# EAGLE library part CMV8000ES (library ICs)
8MP high speed global shutter image sensor
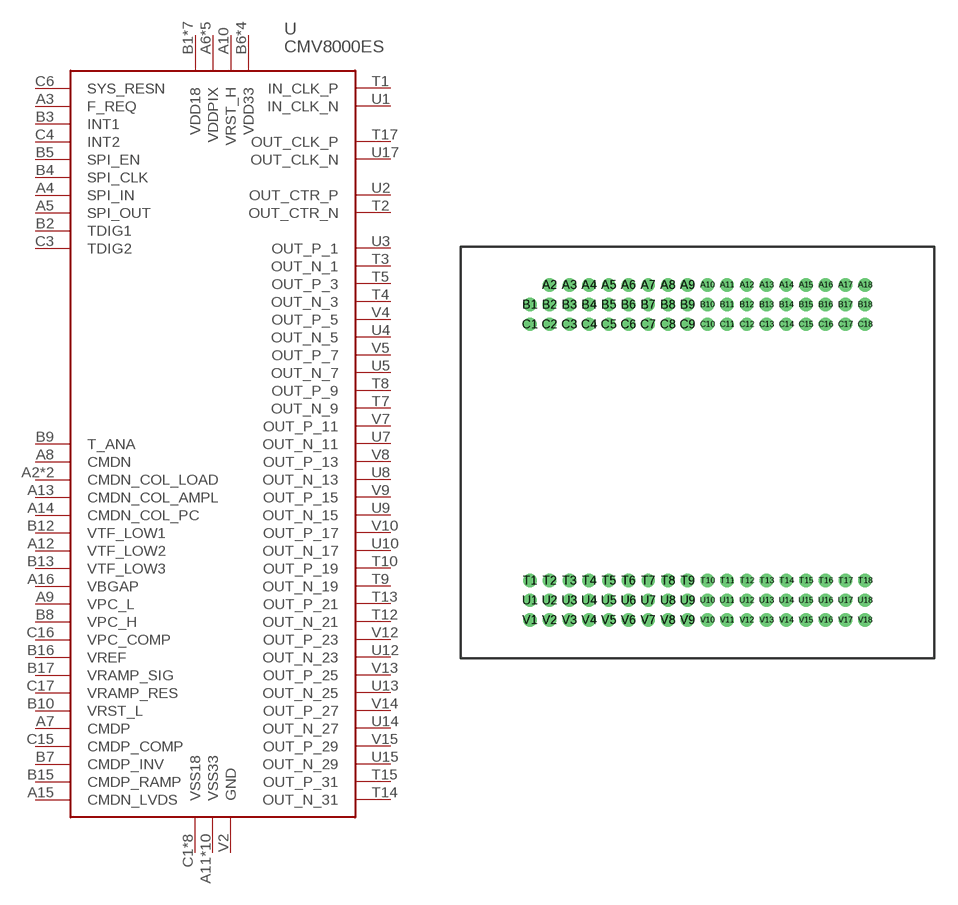
[diagram p202: symbol with the pads of CMV8000; footprint CMV8000]

Designator prefix U

## CMV8000ES-1E5M1PA (HEIGHT: 2.9; MOUSER: 469-CMV8000ES1E5M1PA; PRICE_PER: 484.05; VALUE: CMV8000 MONO)  [CMV8000]
A2  CMDN_COL_LOAD
A3  F_REQ
A4  SPI_IN
A5  SPI_OUT
A6  VDDPIX
A7  CMDP
A8  CMDN
A9  VPC_L
A10  VRST_H
A11  VSS33
A12  VTF_LOW2
A13  CMDN_COL_AMPL
A14  CMDN_COL_PC
A15  CMDN_LVDS
A16  VBGAP
A18  VSS33
B1  VDD18
B2  TDIG1
B3  INT1
B4  SPI_CLK
B5  SPI_EN
B6  VDD33
B7  CMDP_INV
B8  VPC_H
B9  T_ANA
B10  VRST_L
B11  VDDPIX
B12  VTF_LOW1
B13  VTF_LOW3
B14  CMDN_COL_LOAD
B15  CMDP_RAMP
B16  VREF
B17  VRAMP_SIG
B18  VSS33
C1  VSS18
C2  VSS33
C3  TDIG2
C4  INT2
C5  VSS33
C6  SYS_RESN
C7  VDDPIX
C8  VSS33
C9  VSS33
C10  VDDPIX
C11  VDD33
C12  VSS33
C13  VSS33
C14  VDDPIX
C15  CMDP_COMP
C16  VPC_COMP
C17  VRAMP_RES
C18  VDD33
T1  IN_CLK_P
T2  OUT_CTR_N
T3  OUT_N_1
T4  OUT_N_3
T5  OUT_P_3
T6  VSS18
T7  OUT_N_9
T8  OUT_P_9
T9  OUT_N_19
T10  OUT_P_19
T11  VSS18
T12  OUT_N_21
T13  OUT_P_21
T14  OUT_N_31
T15  OUT_P_31
T16  VSS18
T17  OUT_CLK_P
T18  VDD18
U1  IN_CLK_N
U2  OUT_CTR_P
U3  OUT_P_1
U4  OUT_N_5
U5  OUT_N_7
U6  VDD18
U7  OUT_N_11
U8  OUT_N_13
U9  OUT_N_15
U10  OUT_N_17
U11  VDD18
U12  OUT_N_23
U13  OUT_N_25
U14  OUT_N_27
U15  OUT_N_29
U16  VDD18
U17  OUT_CLK_N
U18  VSS18
V1  VDD18
V2  GND
V3  VSS18
V4  OUT_P_5
V5  OUT_P_7
V6  VSS33
V7  OUT_P_11
V8  OUT_P_13
V9  OUT_P_15
V10  OUT_P_17
V11  VDD33
V12  OUT_P_23
V13  OUT_P_25
V14  OUT_P_27
V15  OUT_P_29
V16  VSS18
V17  VDD18
V18  VSS18

## CMV8000ES-1E5C1PA (HEIGHT: 2.9; MOUSER: 469-CMV8000ES1E5C1PA; PRICE_PER: 497.56; VALUE: CMV8000 COLOUR)  [CMV8000]
Pads as for CMV8000

## Footprint CMV8000 (pad centres in mm)
drill 0.35: A2 -9.525,10.795; A3 -8.255,10.795; A4 -6.985,10.795; A5 -5.715,10.795; A6 -4.445,10.795; A7 -3.175,10.795; A8 -1.905,10.795; A9 -0.635,10.795; A10 0.635,10.795; A11 1.905,10.795; A12 3.175,10.795; A13 4.445,10.795; A14 5.715,10.795; A15 6.985,10.795; A16 8.255,10.795; A17 9.525,10.795; A18 10.795,10.795; B1 -10.795,9.525; B2 -9.525,9.525; B3 -8.255,9.525; B4 -6.985,9.525; B5 -5.715,9.525; B6 -4.445,9.525; B7 -3.175,9.525; B8 -1.905,9.525; B9 -0.635,9.525; B10 0.635,9.525; B11 1.905,9.525; B12 3.175,9.525; B13 4.445,9.525; B14 5.715,9.525; B15 6.985,9.525; B16 8.255,9.525; B17 9.525,9.525; B18 10.795,9.525; C1 -10.795,8.255; C2 -9.525,8.255; C3 -8.255,8.255; C4 -6.985,8.255; C5 -5.715,8.255; C6 -4.445,8.255; C7 -3.175,8.255; C8 -1.905,8.255; C9 -0.635,8.255; C10 0.635,8.255; C11 1.905,8.255; C12 3.175,8.255; C13 4.445,8.255; C14 5.715,8.255; C15 6.985,8.255; C16 8.255,8.255; C17 9.525,8.255; C18 10.795,8.255; T1 -10.795,-8.255; T2 -9.525,-8.255; T3 -8.255,-8.255; T4 -6.985,-8.255; T5 -5.715,-8.255; T6 -4.445,-8.255; T7 -3.175,-8.255; T8 -1.905,-8.255; T9 -0.635,-8.255; T10 0.635,-8.255; T11 1.905,-8.255; T12 3.175,-8.255; T13 4.445,-8.255; T14 5.715,-8.255; T15 6.985,-8.255; T16 8.255,-8.255; T17 9.525,-8.255; T18 10.795,-8.255; U1 -10.795,-9.525; U2 -9.525,-9.525; U3 -8.255,-9.525; U4 -6.985,-9.525; U5 -5.715,-9.525; U6 -4.445,-9.525; U7 -3.175,-9.525; U8 -1.905,-9.525; U9 -0.635,-9.525; U10 0.635,-9.525; U11 1.905,-9.525; U12 3.175,-9.525; U13 4.445,-9.525; U14 5.715,-9.525; U15 6.985,-9.525; U16 8.255,-9.525; U17 9.525,-9.525; U18 10.795,-9.525; V1 -10.795,-10.795; V2 -9.525,-10.795; V3 -8.255,-10.795; V4 -6.985,-10.795; V5 -5.715,-10.795; V6 -4.445,-10.795; V7 -3.175,-10.795; V8 -1.905,-10.795; V9 -0.635,-10.795; V10 0.635,-10.795; V11 1.905,-10.795; V12 3.175,-10.795; V13 4.445,-10.795; V14 5.715,-10.795; V15 6.985,-10.795; V16 8.255,-10.795; V17 9.525,-10.795; V18 10.795,-10.795